# EAGLE library part LT1763-1.5 (library v-reg-lineartechnology)
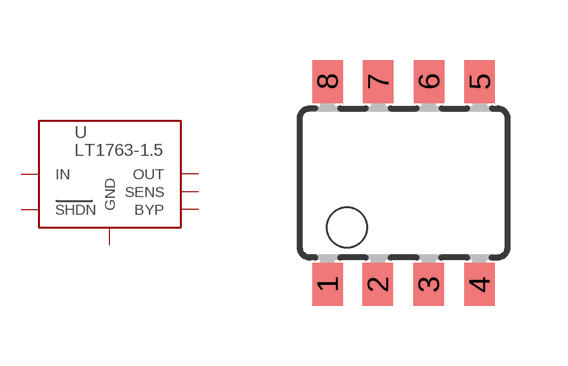
[diagram p1: symbol with the pads of SO8; footprint SO8]

Designator prefix -

## LT1763-1.5  [SO8]
1  OUT
2  SENS
3  GND
4  BYP
5  SHDN
6  GND1
7  GND2
8  IN

## Footprint SO8 (pad centres in mm)
smd 0.762 x 1.079: 1 -1.905,-2.54; 2 -0.645,-2.54; 3 0.625,-2.54; 4 1.895,-2.54; 5 1.905,2.54; 6 0.635,2.54; 7 -0.635,2.54; 8 -1.905,2.54